# EAGLE library part EXPANSION (library radish)
YAMAICHI CONNECTOR
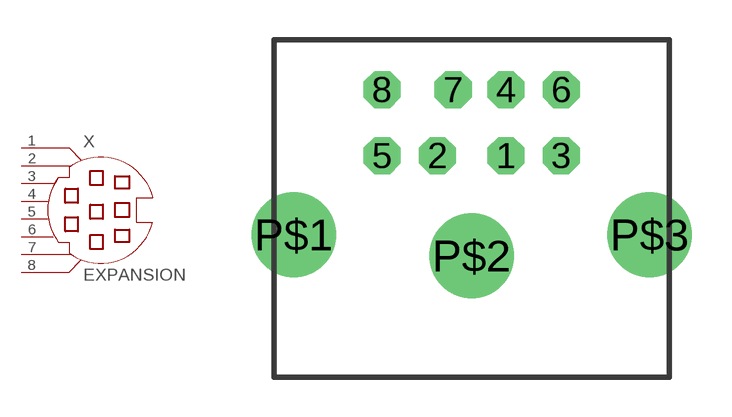
[diagram p4: symbol with the pads of MD-80SM; footprint MD-80SM]

Designator prefix X

## EXPANSION  [MD-80SM]
1  1  pas
2  2  pas
3  3  pas
4  4  pas
5  5  pas
6  6  pas
7  7  pas
8  8  pas

## Footprint MD-80SM (pad centres in mm)
Mini Din YAMAICHI CONNECTOR
drill 0.9 octagon: 1 1.3,8.5; 2 -1.3,8.5; 3 3.4,8.5; 4 1.3,11; 5 -3.4,8.5; 6 3.4,11; 7 -0.7,11; 8 -3.4,11
drill 2.2 round: P$1 -6.75,5.5; P$2 0,4.7; P$3 6.75,5.5